# Altium schematic symbol library Diode Symbols.SchLib: 26 symbols
Pins are listed as number, name and electrical type; pins without a type are passive.

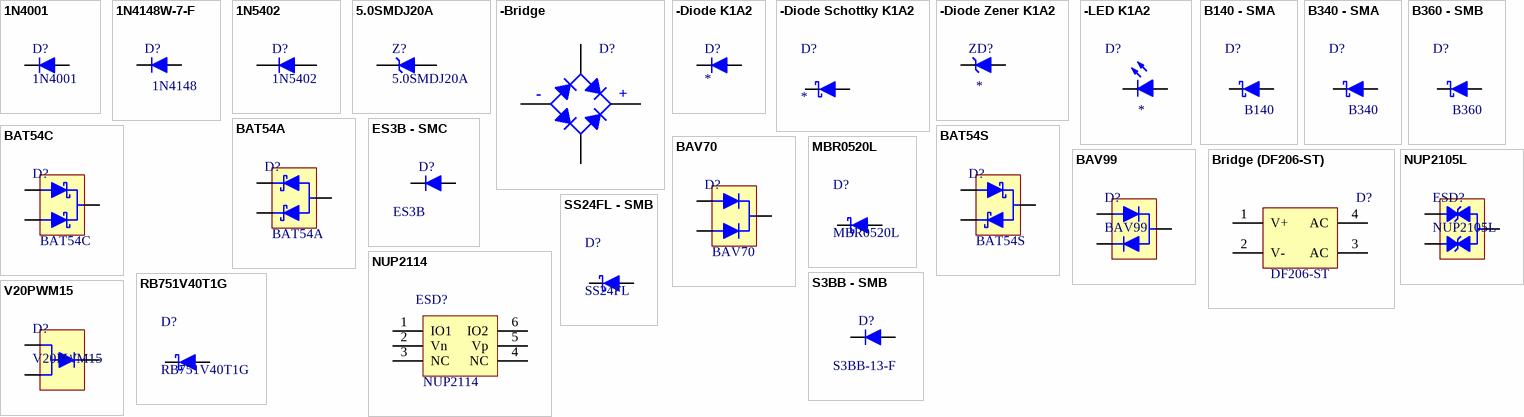
[diagram p0: symbols 1N4001 to V20PWM15]

## 1N4001
designator D?
1A, 50V, Through Hole; Supplier 1: Mouser; Supplier Part Number 1: 863-1N4001; Value: 1N4001
footprint DO-41-K1A2 (AXIAL, 2-Leads, Diameter 2.35mm)
pins: 1 K, 2 A

## 1N4148W-7-F
designator D?, comment 1N4148
2 Pin Diode K1A2; Supplier 1: Mouser; Supplier Part Number 1: 621-1N4148W-F; Value: 1N4148
footprint SOD-123-K1A2 (SOD, 2-Leads, Body 2.69x1.6mm)
footprint SOD-123_L-K1A2 (SOD, 2-Leads, Body 2.69x1.6mm, High Density)
pins: 1 K, 2 A

## 1N5402
designator D?
3A, 200V, Through Hole; Value: 1N5402; Supplier 1: Mouser; Supplier Part Number 1: 863-1N5402G
footprint DO-201AD-K1A2 (AXIAL, 2-Leads, Diameter 5.05mm)
pins: 1 K, 2 A

## 5.0SMDJ20A
designator Z?
Unidirectional TVS Diode 20V, 300A; Breakdown: 22.2 V; Value: 5.0SMDJ20A; Supplier 1: Mouser; Supplier Part Number 1: 576-5.0SMDJ20A
footprint SMC-K1A2 (Molded Diode, 2-Leads, Body 6.85x5.90mm, IPC Medium Density)
pins: 1 K, 2 A

## -Bridge
designator D?  (value not drawn)
Full Wave Diode Bridge; Value: *
pins: AC1, AC2, V+, V-
text: -; +

## -Diode K1A2
designator D?
2 Pin Diode K1A2; Value: *
footprint SMA-K1A2 (Molded Diode, 2-Leads, Body 4.30x2.60mm, IPC Medium Density)
footprint SMB-K1A2 (Molded Diode, 2-Leads, Body 4.35x3.62mm, IPC Medium Density)
footprint SMC-K1A2 (Molded Diode, 2-Leads, Body 6.85x5.90mm, IPC Medium Density)
footprint SOD-123-K1A2 (SOD, 2-Leads, Body 2.69x1.6mm)
footprint SOD-323-K1A2 (SODFL, 2-Leads, Body 1.25x2.50mm, IPC Medium Density)
footprint DO-41-K1A2 (AXIAL, 2-Leads, Diameter 2.35mm)
footprint DO-201AD-K1A2 (AXIAL, 2-Leads, Diameter 5.05mm)
footprint SMA_L-K1A2 (Molded Diode, 2-Leads, Body 4.30x2.60mm, IPC High Density)
footprint SMB_L-K1A2 (Molded Diode, 2-Leads, Body 4.35x3.62mm, IPC High Density)
footprint SMC_L-K1A2 (Molded Diode, 2-Leads, Body 6.85x5.90mm, IPC High Density)
footprint SOD-123_L-K1A2 (SOD, 2-Leads, Body 2.69x1.6mm, High Density)
footprint SOD-323_L-K1A2 (SODFL, 2-Leads, Body 1.25x2.50mm, IPC High Density)
footprint SOD-80-K1A2 (MiniMELF) (MELF Diode, 2-Leads, Body 3.50x1.50mm, IPC Medium Density)
pins: 1 K, 2 A

## -Diode Schottky K1A2
designator D?
2 Pin Schottky K1A2; Value: *
footprint SMA-K1A2 (Molded Diode, 2-Leads, Body 4.30x2.60mm, IPC Medium Density)
footprint SMB-K1A2 (Molded Diode, 2-Leads, Body 4.35x3.62mm, IPC Medium Density)
footprint SMC-K1A2 (Molded Diode, 2-Leads, Body 6.85x5.90mm, IPC Medium Density)
footprint SOD-123-K1A2 (SOD, 2-Leads, Body 2.69x1.6mm)
footprint SOD-323-K1A2 (SODFL, 2-Leads, Body 1.25x2.50mm, IPC Medium Density)
footprint SMA_L-K1A2 (Molded Diode, 2-Leads, Body 4.30x2.60mm, IPC High Density)
footprint SMB_L-K1A2 (Molded Diode, 2-Leads, Body 4.35x3.62mm, IPC High Density)
footprint SMC_L-K1A2 (Molded Diode, 2-Leads, Body 6.85x5.90mm, IPC High Density)
footprint SOD-123_L-K1A2 (SOD, 2-Leads, Body 2.69x1.6mm, High Density)
footprint SOD-323_L-K1A2 (SODFL, 2-Leads, Body 1.25x2.50mm, IPC High Density)
pins: 1 K, 2 A

## -Diode Zener K1A2
designator ZD?
2 Pin Zener K1A2; Value: *
footprint SMA-K1A2 (Molded Diode, 2-Leads, Body 4.30x2.60mm, IPC Medium Density)
footprint SMB-K1A2 (Molded Diode, 2-Leads, Body 4.35x3.62mm, IPC Medium Density)
footprint SMC-K1A2 (Molded Diode, 2-Leads, Body 6.85x5.90mm, IPC Medium Density)
footprint SOD-123-K1A2 (SOD, 2-Leads, Body 2.69x1.6mm)
footprint SOD-323-K1A2 (SODFL, 2-Leads, Body 1.25x2.50mm, IPC Medium Density)
footprint SOD-80-K1A2 (MiniMELF) (MELF Diode, 2-Leads, Body 3.50x1.50mm, IPC Medium Density)
footprint SMA_L-K1A2 (Molded Diode, 2-Leads, Body 4.30x2.60mm, IPC High Density)
footprint SMB_L-K1A2 (Molded Diode, 2-Leads, Body 4.35x3.62mm, IPC High Density)
footprint SMC_L-K1A2 (Molded Diode, 2-Leads, Body 6.85x5.90mm, IPC High Density)
footprint SOD-123_L-K1A2 (SOD, 2-Leads, Body 2.69x1.6mm, High Density)
footprint SOD-323_L-K1A2 (SODFL, 2-Leads, Body 1.25x2.50mm, IPC High Density)
pins: 1 K, 2 A

## -LED K1A2
designator D?
2 Pin LED K1A2; Label: *
footprint LED-0603-K1A2 (SMD LED, 2-Leads, Body 1.6x0.8mm)
footprint LED-0805-K1A2 (SMD LED, 2-Leads, Body 2.0x1.25mm)
footprint LED-T1-3/4-K1A2 (Through Hole LED, 2-Leads, Diameter 5mm, Lead Spacing 2.54mm)
footprint LED-T1-K1A2 (Through Hole LED, 2-Leads, Diameter 3mm, Lead Spacing 2.54mm)
footprint LED-0603-K1A2 - ALT (SMD LED, 2-Leads, Body 1.6x0.8mm)
footprint LED-0805-K1A2 - ALT (SMD LED, 2-Leads, Body 2.0x1.25mm)
pins: 1 K, 2 A

## B140 - SMA
designator D?, comment B140
1A, 40V, Schottky Diode, SMA; Supplier 1: Digi-Key; Supplier Part Number 1: B140-FDICT-ND; Value: B140
footprint SMA-K1A2 (Molded Diode, 2-Leads, Body 4.30x2.60mm, IPC Medium Density)
pins: 1 K, 2 A

## B340 - SMA
designator D?, comment B340
3A, 40V, Schottky Diode, SMA; Supplier 1: Mouser; Supplier Part Number 1: 621-B340A-F; Value: B340
footprint SMA-K1A2 (Molded Diode, 2-Leads, Body 4.30x2.60mm, IPC Medium Density)
pins: 1 K, 2 A

## B360 - SMB
designator D?, comment B360
3A, 60V, Schottky Diode, SMB; Supplier 1: Digi-Key; Supplier Part Number 1: B360B-FDICT-ND; Value: B360
footprint SMB-K1A2 (Molded Diode, 2-Leads, Body 4.35x3.62mm, IPC Medium Density)
pins: 1 K, 2 A

## BAT54A
designator D?
Dual Common Anode Schottky Diodes; Value: BAT54A
footprint SOT23-3 (SOT23, 3-Leads, Body 2.90x2.35mm, Pitch 0.95mm, IPC Medium Density)
pins: 1 K1, 2 K2, 3 A

## BAT54C
designator D?
Dual Common Cathode Schottky Diodes; Supplier 1: Mouser; Supplier Part Number 1: 621-BAT54C-F; Value: BAT54C
footprint SOT23-3 (SOT23, 3-Leads, Body 2.90x2.35mm, Pitch 0.95mm, IPC Medium Density)
pins: 1 A1, 2 A2, 3 K

## BAT54S
designator D?
Dual Series Schottky Diodes; Value: BAT54S
footprint SOT23-3 (SOT23, 3-Leads, Body 2.90x2.35mm, Pitch 0.95mm, IPC Medium Density)
pins: 1, 2, 3

## BAV70
designator D?
Dual Common Cathode Diodes; Supplier 1: Mouser; Supplier Part Number 1: 863-BAV70LT1G; Value: BAV70
footprint SOT23-3 (SOT23, 3-Leads, Body 2.90x2.35mm, Pitch 0.95mm, IPC Medium Density)
pins: 1, 2, 3

## BAV99
designator D?
Dual Series Diodes; Value: BAV99; Supplier 1: Mouser; Supplier Part Number 1: 771-BAV99W-T/R
footprint SOT23-3 (SOT23, 3-Leads, Body 2.90x2.35mm, Pitch 0.95mm, IPC Medium Density)
pins: 1, 2, 3
1 alternate drawing of the same symbol

## Bridge (DF206-ST)
designator D?, comment DF206-ST
Full Wave Diode Bridge; Supplier 1: Mouser; Supplier Part Number 1: 750-DF206ST-G; Value: DF206-ST
footprint DFS4
pins: 1 V+, 2 V-, 3 AC, 4 AC

## ES3B - SMC
designator D?, comment ES3B
3A, 100V, SMC; Value: ES3B
footprint SMC-K1A2 (Molded Diode, 2-Leads, Body 6.85x5.90mm, IPC Medium Density)
pins: 1 K, 2 A

## MBR0520L
designator D?
0.5A, 20V Schottky Diode; Supplier 1: Digi-Key; Supplier Part Number 1: MBR0520LDKR-ND; Value: MBR0520L
footprint SOD-123-K1A2 (SOD, 2-Leads, Body 2.69x1.6mm)
pins: 1 K, 2 A

## NUP2105L
designator ESD?
Dual Bidirectional ESD Diodes, 24V; Value: NUP2105L; Supplier 1: Mouser; Supplier Part Number 1: 863-NUP2105LT1G
footprint SOT23-3 (SOT23, 3-Leads, Body 2.90x2.35mm, Pitch 0.95mm, IPC Medium Density)
pins: 1 IO1, 2 IO2, 3 GND

## NUP2114
designator ESD?
Low Capacitance, 2 Channel ESD Diode, 5V, SOT23-6; Supplier 1: Mouser; Supplier Part Number 1: 863-NUP2114UCMR6T1G; Value: NUP2114
footprint SOT23-6 (SOT23, 6-Leads, Body 2.90x2.80mm, Pitch 0.95mm, IPC Medium Density)
pins: 1 IO1, 2 Vn, 3 NC, 4 NC, 5 Vp, 6 IO2

## RB751V40T1G
designator D?
0.03A, 40V, 0.28 Vf, Fast Schottky; Supplier 1: Mouser; Supplier Part Number 1: 863-RB751V40T1G; Value: RB751V40T1G
footprint SOD-323-K1A2 (SODFL, 2-Leads, Body 1.25x2.50mm, IPC Medium Density)
pins: 1 K, 2 A

## S3BB - SMB
designator D?, comment S3BB-13-F
3A, 100V, SMB; Supplier 1: Mouser; Supplier Part Number 1: 621-S3BB-F; Value: S3BB-13-F
footprint SMB-K1A2 (Molded Diode, 2-Leads, Body 4.35x3.62mm, IPC Medium Density)
pins: 1 K, 2 A

## SS24FL - SMB
designator D?, comment SS24FL
2A, 40V Schottky Diode, SMB; Supplier 1: Mouser; Supplier Part Number 1: 512-SS24FL; Value: SS24FL
footprint SOD-123-K1A2 (SOD, 2-Leads, Body 2.69x1.6mm)
pins: 1 K, 2 A

## V20PWM15
designator D?
Schottky Diode, 20A, DPAK; Value: V20PWM15
footprint DPAK (TO-252) (D-PAK, 3-Pads, Body 6.21x6.73mm (max), IPC Medium Density)
pins: 1, 3, 4